# Altium footprint library Quad-Stage-Prototype.PcbLib: 24 footprints (part 1 of 2)
Each footprint in its own frame and in the unit in brackets; x right, y up, seen from the top. Pads: shape width x height; smd on the part's side, far side on the other; paste and mask are expansions set on the pad; w line width, h text height; cw(c..) or ccw(c..) is an arc to the next point about the centre after c.
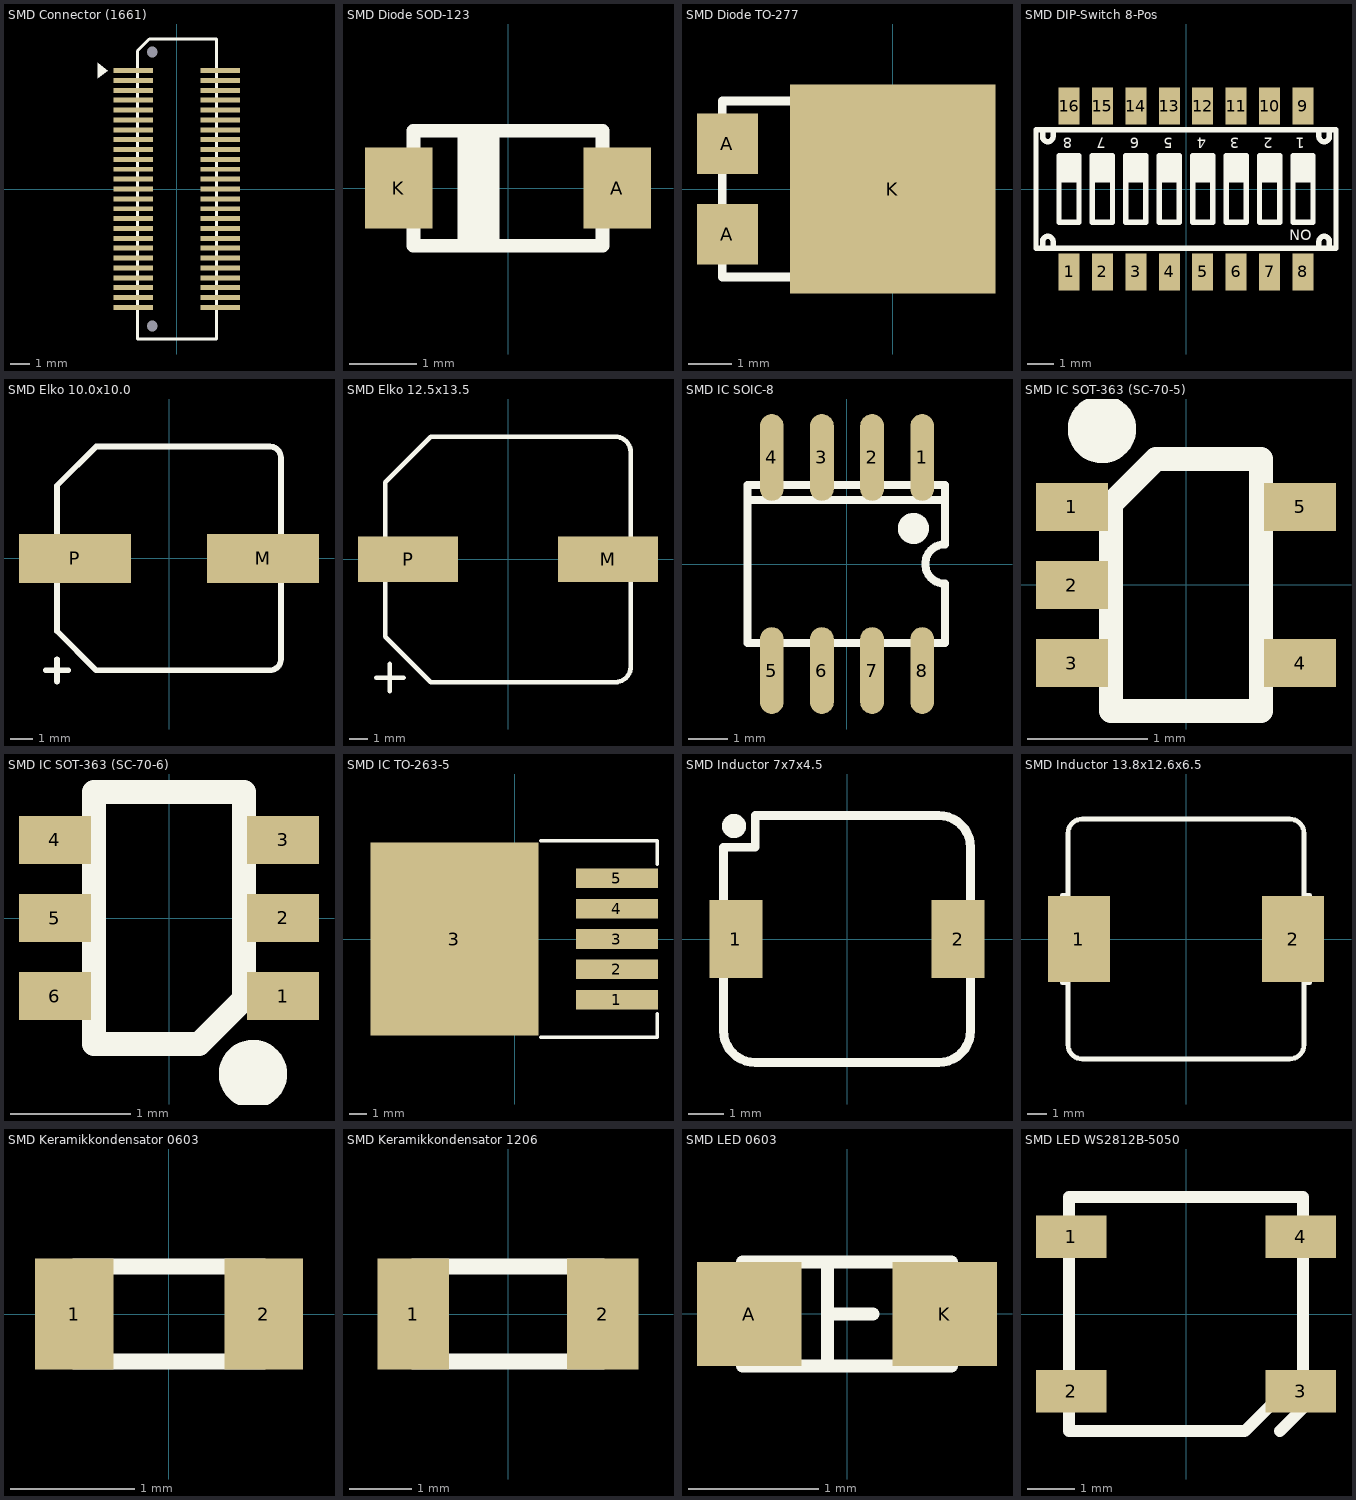
[diagram p0: the footprints below, top view; thin cyan lines are the x and y axes]

## SMD Connector (1661) [mm] "SMD_LED_RED"
height 8.65
pads (52):
  rect 2x0.25 smd: 1(-2.2,6) 2(-2.2,5.5) 3(-2.2,5) 4(-2.2,4.5) 5(-2.2,4) 6(-2.2,3.5) 7(-2.2,3) 8(-2.2,2.5) 9(-2.2,2) 10(-2.2,1.5) 11(-2.2,1) 12(-2.2,0.5) 13(-2.2,0) 14(-2.2,-0.5) 15(-2.2,-1) 16(-2.2,-1.5) 17(-2.2,-2) 18(-2.2,-2.5) 19(-2.2,-3) 20(-2.2,-3.5) 21(-2.2,-4) 22(-2.2,-4.5) 23(-2.2,-5) 24(-2.2,-5.5) 25(-2.2,-6) 26(2.2,-6) 27(2.2,-5.5) 28(2.2,-5) 29(2.2,-4.5) 30(2.2,-4) 31(2.2,-3.5) 32(2.2,-3) 33(2.2,-2.5) 34(2.2,-2) 35(2.2,-1.5) 36(2.2,-1) 37(2.2,-0.5) 38(2.2,0) 39(2.2,0.5) 40(2.2,1) 41(2.2,1.5) 42(2.2,2) 43(2.2,2.5) 44(2.2,3) 45(2.2,3.5) 46(2.2,4) 47(2.2,4.5) 48(2.2,5) 49(2.2,5.5) 50(2.2,6)
  round 0 hole 0.55: NC(-1.25,-6.95) NC(-1.25,6.95)
Top Overlay:
  region: -3.5,6 -4,5.6 -4,6.4
  lines w0.152: -2,-7.6 -2,7 -1.4,7.6 2,7.6 2,-7.6 -2,-7.6

## SMD Diode SOD-123 [mm] "SM LED; 2 Flat Leads"
height 1.3
pads (2):
  rect 1x1.2 smd: A(1.62,0) K(-1.62,0)
Top Overlay:
  region: -0.125,0.875 -0.75,0.875 -0.75,-0.9 -0.125,-0.9
  lines w0.2: -1.4,-0.85 1.4,-0.85 ; -1.4,0.85 1.4,0.85
  lines w0.203: -1.4,-0.85 -1.4,0.85 ; 1.4,-0.85 1.4,0.85
3D body "User Library-SOD-123_DiodesInc.step": height 1.42, standoff -0.03, extent -1.925,-0.85 1.925,0.85

## SMD Diode TO-277 [mm] "SM LED; 2 Flat Leads"
height 1.3
pads (3):
  rect 1.4x1.4 smd: A(-3.805,-1.04) A(-3.805,1.04)
  rect 4.72x4.8 smd: K(0,0)
Top Overlay:
  rectangle: -0.8,-2.025 0.5,2.025
  lines w0.203: -3.925,-2.025 1.325,-2.025 1.325,2.025 -3.925,2.025 -3.925,-2.025
3D body "User Library-TO-277A(SMPC).x_b": height 1.2, standoff 0, extent -4.4,-2.375 2.25,2.375

## SMD DIP-Switch 8-Pos [mm]
pads (16):
  rect 0.8x1.4 smd: 1(-4.445,-3.15) 2(-3.175,-3.15) 3(-1.905,-3.15) 4(-0.635,-3.15) 5(0.635,-3.15) 6(1.905,-3.15) 7(3.175,-3.15) 8(4.445,-3.15) 9(4.445,3.15) 10(3.175,3.15) 11(1.905,3.15) 12(0.635,3.15) 13(-0.635,3.15) 14(-1.905,3.15) 15(-3.175,3.15) 16(-4.445,3.15)
Top Overlay:
  region: -4.826,1.27 -4.826,0.254 -4.064,0.254 -4.064,1.27
  region: -3.556,1.27 -3.556,0.254 -2.794,0.254 -2.794,1.27
  region: -2.286,1.27 -2.286,0.254 -1.524,0.254 -1.524,1.27
  region: 4.064,1.27 4.064,0.254 4.826,0.254 4.826,1.27
  region: 2.794,1.27 2.794,0.254 3.556,0.254 3.556,1.27
  region: 1.524,1.27 1.524,0.254 2.286,0.254 2.286,1.27
  region: -1.016,1.27 -1.016,0.254 -0.254,0.254 -0.254,1.27
  region: 0.254,1.27 0.254,0.254 1.016,0.254 1.016,1.27
  lines w0.203: -5.45,-2.25 -5.45,-2 cw(c-5.25,-2) -5.05,-2 -5.05,-2.25 ; -5.45,2.25 -5.45,2 ccw(c-5.25,2) -5.05,2 -5.05,2.25 ; 5.05,-2.25 5.05,-2 cw(c5.25,-2) 5.45,-2 5.45,-2.25 ; 5.05,2.25 5.05,2 ccw(c5.25,2) 5.45,2 5.45,2.25 ; -5.7,-2.25 -5.7,2.25 5.7,2.25 5.7,-2.25 -5.7,-2.25 ; -4.826,-1.27 -4.064,-1.27 -4.064,0 -4.064,1.27 -4.826,1.27 -4.826,0 -4.826,-1.27 ; -3.556,-1.27 -2.794,-1.27 -2.794,0 -2.794,1.27 -3.556,1.27 -3.556,0 -3.556,-1.27 ; -2.286,-1.27 -1.524,-1.27 -1.524,0 -1.524,1.27 -2.286,1.27 -2.286,0 -2.286,-1.27 ; -1.016,-1.27 -1.016,0 -1.016,1.27 -0.254,1.27 -0.254,0 -0.254,-1.27 -1.016,-1.27 ; 0.254,-1.27 0.254,0 0.254,1.27 1.016,1.27 1.016,0 1.016,-1.27 0.254,-1.27 ; 1.524,-1.27 2.286,-1.27 2.286,0 2.286,1.27 1.524,1.27 1.524,0 1.524,-1.27 ; 2.794,-1.27 3.556,-1.27 3.556,0 3.556,1.27 2.794,1.27 2.794,0 2.794,-1.27 ; 4.064,-1.27 4.826,-1.27 4.826,0 4.826,1.27 4.064,1.27 4.064,0 4.064,-1.27
  text "8" at -4.318,1.956 h0.41
  text "7" at -3.048,1.956 h0.41
  text "6" at -1.778,1.956 h0.41
  text "5" at -0.508,1.956 h0.41
  text "4" at 0.762,1.956 h0.41
  text "3" at 2.032,1.956 h0.41
  text "2" at 3.302,1.956 h0.41
  text "1" at 4.521,1.956 h0.41
  text "ON" at 4.775,-1.549 h0.41
3D body "A6H_8101.step": height 1.55, standoff 0, extent -5.695,-3.35 5.695,3.35

## SMD Elko 10.0x10.0 [mm]
pads (2):
  rect 5x2.2 smd: M(4.2,0) P(-4.2,0)
Top Overlay:
  lines w0.254: -5.5,-5 -4.5,-5 ; -5,-5.5 -5,-4.5 ; -5,-3.25 -3.25,-5 4.5,-5 ccw(c4.5,-4.5) 5,-4.5 5,4.5 ccw(c4.5,4.5) 4.5,5 -3.25,5 -5,3.25 -5,-3.25
3D body "User Library-A3D-003-00015.x_b": height 10.3, standoff 0.1, extent -5.85,-5.15 5.85,5.15

## SMD Elko 12.5x13.5 [mm]
pads (2):
  rect 5.5x2.5 smd: M(5.5,0) P(-5.5,0)
Top Overlay:
  lines w0.254: -7.25,-6.5 -5.75,-6.5 ; -6.5,-7.25 -6.5,-5.75 ; -6.75,-4.25 -4.25,-6.75 5.896,-6.75 ccw(c5.896,-5.896) 6.75,-5.896 6.75,5.896 ccw(c5.896,5.896) 5.896,6.75 -4.25,6.75 -6.75,4.25 -6.75,-4.25
3D body "User Library-A3D-003-00018.x_b": height 13.5, standoff 0, extent -7.45,-6.75 7.45,6.75

## SMD IC SOIC-8 [mm]
height 1.7
pads (8):
  oval 0.6x2.2 smd: 1(1.905,2.7) 2(0.635,2.7) 3(-0.635,2.7) 4(-1.905,2.7) 5(-1.905,-2.7) 6(-0.635,-2.7) 7(0.635,-2.7) 8(1.905,-2.7)
Top Overlay:
  circle w0.406: c1.683,0.9 r0.191
  lines w0.2: -2.517,1.625 2.483,1.625 ; 2.483,-2 -2.517,-2 -2.517,2 2.483,2
  lines w0.203: 2.483,-2 2.483,-0.5 cw(c2.483,0) 2.483,0.5 2.483,2
3D body "User Library-SO-8-1.step": height 1.75, standoff 0, extent -2.517,-3.122 2.483,3.122

## SMD IC SOT-363 (SC-70-5) [mm]
pads (5):
  rect 0.6x0.4 smd: 1(-0.95,0.65) 2(-0.95,0) 3(-0.95,-0.65) 4(0.95,-0.65) 5(0.95,0.65)
Top Overlay:
  circle w0.37: c-0.7,1.3 r0.1
  lines w0.203: -0.625,-1.05 -0.625,0.675 -0.25,1.05 0.625,1.05 0.625,-1.05 -0.625,-1.05
3D body "User Library-sot353 (SC-70-5).step": height 1, standoff 0, extent -1.15,-1.05 1.15,1.05

## SMD IC SOT-363 (SC-70-6) [mm]
pads (6):
  rect 0.6x0.4 smd: 1(0.95,-0.65) 2(0.95,0) 3(0.95,0.65) 4(-0.95,0.65) 5(-0.95,0) 6(-0.95,-0.65)
Top Overlay:
  circle w0.37: c0.7,-1.3 r0.1
  lines w0.203: -0.625,-1.05 -0.625,1.05 0.625,1.05 0.625,-0.675 0.25,-1.05 -0.625,-1.05
3D body "User Library-SC70-6.step": height 0.92, standoff -0.03, extent -1.05,-1 1.05,1

## SMD IC TO-263-5 [mm]
pads (6):
  rect 4.6x1.1 smd: 1(5.725,-3.4) 2(5.725,-1.7) 3(5.725,0) 4(5.725,1.7) 5(5.725,3.4)
  rect 9.4x10.8 smd: 3(-3.375,0)
Top Overlay:
  lines w0.2: 1.475,-5.5 7.975,-5.5 7.975,-4.191 ; 1.475,5.5 7.975,5.5 7.975,4.191
3D body "User Library-TO263-5.X_B": height 4.78, standoff -0.02, extent -7.83,-5 7.84,5

## SMD Inductor 7x7x4.5 [mm]
pads (2):
  rect 1.5x2.2 smd: 1(-3.15,0) 2(3.15,0)
Top Overlay:
  circle w0.4: c-3.2,3.2 r0.141
  lines w0.254: -3.5,-2.6 ccw(c-2.6,-2.6) -2.6,-3.5 2.6,-3.5 ccw(c2.6,-2.6) 3.5,-2.6 3.5,2.6 ccw(c2.6,2.6) 2.6,3.5 -2.6,3.5 -2.6,2.6 -3.5,2.6 -3.5,-2.6
3D body "User Library-Coil.x_t": height 4.61, standoff 0, extent -3.6,-3.5 3.6,3.5

## SMD Inductor 13.8x12.6x6.5 [mm]
pads (2):
  rect 3.25x4.5 smd: 1(-5.625,0) 2(5.625,0)
Top Overlay:
  lines w0.254: -6.2,-2.3 -6.5,-2.3 -6.5,0 -6.5,2.3 -6.2,2.3 ; 6.2,-2.3 6.5,-2.3 6.5,0 6.5,2.3 6.2,2.3 ; -6.201,0 -6.195,-5.55 ccw(c-5.45,-5.55) -5.45,-6.295 0,-6.301 5.45,-6.295 ccw(c5.45,-5.55) 6.195,-5.55 6.201,0 6.195,5.55 ccw(c5.45,5.55) 5.45,6.295 0,6.301 -5.45,6.295 ccw(c-5.45,5.55) -6.195,5.55 -6.201,0
3D body "User Library-SRP1265A.x_b": height 6.35, standoff 0.05, extent -6.45,-6.15 6.4,6.35

## SMD Keramikkondensator 0603 [mil]
height 66.93
pads (2):
  rect 25x35 smd: 1(-30,0) 2(30,0)
Top Overlay:
  lines w5: -30,-15 -30,15 30,15 30,-15 -30,-15
3D body "User Library-0603_Cap.STEP": height 31.69, standoff 0, extent -31.49,-15.74 31.5,15.75

## SMD Keramikkondensator 1206 [mil]
pads (2):
  rect 45x70 smd: 1(-60,0) 2(60,0)
Top Overlay:
  lines w10: -60,-30 -60,30 60,30 60,-30 -60,-30
3D body "User Library-1206 SMD Capacitor.step": height 39.45, standoff 0, extent -62.98,-31.49 63,31.51

## SMD LED 0603 [mm] "SMD_LED_RED"
height 8.65
pads (2):
  rect 0.8x0.8 smd: A(-0.75,0) K(0.75,0)
Top Overlay:
  lines w0.1: -0.15,-0.4 -0.15,0.4 ; -0.15,0 0.2,0 ; -0.8,-0.4 0.8,-0.4 0.8,0.4 -0.8,0.4 -0.8,-0.4
3D body "User Library-LED SMD0603.step": height 0.68, standoff 0, extent -0.808,-0.368 0.842,0.357

## SMD LED WS2812B-5050 [mm] "SMD_LED_RED"
height 8.65
pads (4):
  rect 1.5x0.9 smd: 1(-2.45,1.65) 2(-2.45,-1.65) 3(2.45,-1.65) 4(2.45,1.65)
Top Overlay:
  lines w0.254: 2,-2.5 2.5,-2 ; -2.5,-2.5 -2.5,2.5 2.5,2.5 2.5,-1.25 1.25,-2.5 -2.5,-2.5
3D body "WS2812b updated.x_t": height 1.7, standoff 0, extent -2.675,-2.475 2.675,2.475